# Altium footprint library Capacitors.PcbLib: 39 footprints (part 3 of 3)
Each footprint in its own frame and in the unit in brackets; x right, y up, seen from the top. Pads: shape width x height; smd on the part's side, far side on the other; paste and mask are expansions set on the pad; w line width, h text height; cw(c..) or ccw(c..) is an arc to the next point about the centre after c.
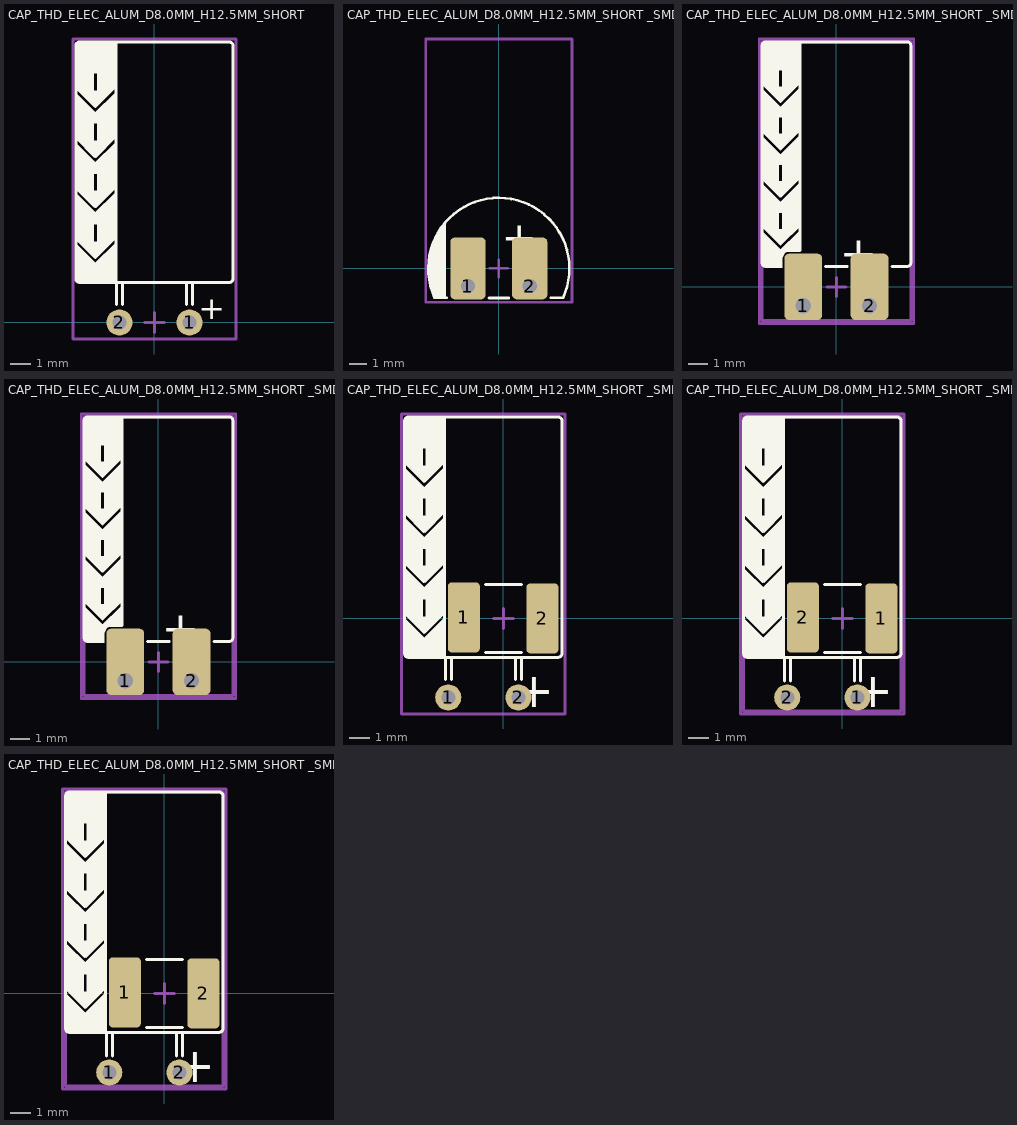
[diagram p2: the footprints below, top view; thin cyan lines are the x and y axes]

## CAP_THD_ELEC_ALUM_D8.0MM_H12.5MM_SHORT [mm] "8MM Diameter, 3.5MM Lead Spacing Aluminium Capacitor"
height 8
pads (2):
  round 1.3 hole 0.7: 1(1.75,0) 2(-1.75,0)
Top Overlay:
  region: -1.925,3.9 -1.925,2 -3.913,2.021 -3.927,3.852 -2.95,2.875
  region: -1.925,6.425 -1.925,4.278 -2.95,3.253 -3.927,4.23 -3.927,6.377 -3.15,5.6 -3.15,3.925 -2.75,3.925 -2.75,5.6
  region: -2.45,5.025 -3.439,5.025 -3.439,5.889 -2.95,5.4 -2.438,5.912
  region: -1.925,8.95 -1.925,6.803 -2.95,5.778 -3.927,6.755 -3.927,8.902 -3.15,8.125 -3.15,6.45 -2.75,6.45 -2.75,8.125
  region: -2.45,7.55 -3.439,7.55 -3.439,8.414 -2.95,7.925 -2.438,8.437
  region: -1.925,11.45 -1.925,9.303 -2.95,8.278 -3.927,9.255 -3.927,11.402 -3.15,10.625 -3.15,8.95 -2.75,8.95 -2.75,10.625
  region: -2.45,10.05 -3.439,10.05 -3.439,10.914 -2.95,10.425 -2.438,10.937
  region: -1.925,13.95 -1.925,11.803 -2.95,10.778 -3.927,11.755 -3.927,13.902 -3.15,13.125 -3.15,11.45 -2.75,11.45 -2.75,13.125
  region: -2.45,12.55 -3.439,12.55 -3.439,13.414 -2.95,12.925 -2.438,13.437
  region: -1.925,14 -3.909,13.983 -3.927,12.829 -1.973,12.829 -1.925,12.877
  lines w0.15: -3.927,3.852 -2.95,2.875 -1.925,3.9 ; -3.927,4.23 -2.95,3.253 -1.925,4.278 ; -3.927,6.377 -2.95,5.4 -1.925,6.425 ; -3.927,6.755 -2.95,5.778 -1.925,6.803 ; -3.927,8.877 -2.95,7.9 -1.925,8.925 ; -3.927,9.255 -2.95,8.278 -1.925,9.303 ; -3.927,11.377 -2.95,10.4 -1.925,11.425 ; -3.927,11.755 -2.95,10.778 -1.925,11.803 ; -1.95,14 -3.731,14 ; -1.925,2 -1.925,14 ; -1.9,0.9 -1.9,1.961 ; -1.6,0.9 -1.6,1.961 ; 1.6,0.9 1.6,1.961 ; 1.9,0.9 1.9,1.961 ; -3.927,2.196 ccw(c-3.731,2.196) -3.731,2 ; -3.927,2.196 -3.927,13.804 cw(c-3.731,13.804) -3.731,14 ; -3.927,2.196 -3.731,2 ; -3.731,2 2.7,2 3.73,2 ccw(c3.73,2.196) 3.926,2.196 3.926,13.804 ccw(c3.73,13.804) 3.73,14 -3.731,14
  lines w0.254: -3.15,3.925 -2.75,3.925 -2.75,5.025 -3.15,5.025 -3.15,3.925 ; -3.15,6.45 -2.75,6.45 -2.75,7.55 -3.15,7.55 -3.15,6.45 ; -3.15,8.95 -2.75,8.95 -2.75,10.05 -3.15,10.05 -3.15,8.95 ; -3.15,11.45 -2.75,11.45 -2.75,12.55 -3.15,12.55 -3.15,11.45
  text "+" at 3.525,1.525 h2
Top Designator:
  text ".Designator" at -2.462,6.372 h1.3
Mechanical 15:
  lines w0.15: -0.5,0 0.5,0 ; 0,-0.5 0,0.5 ; -4.075,-0.825 4.075,-0.825 4.075,14.15 -4.075,14.15 -4.075,-0.825
3D body "ElCapRA-3.5-8x12-black.step": height 9.1, standoff -2, extent -4,-0.174 4.001,14.075

## CAP_THD_ELEC_ALUM_D8.0MM_H12.5MM_SHORT _SMD_C1828_#1 [mm] "8MM Diameter, 3.5MM Lead Spacing Aluminium Capacitor"
height 8
pads (2):
  rrect25% 2x3.5 / inner rrect25% 1.5x3.5 / far side oval 1.5x3.5 hole 0.8 copper offset 0,1: 1(-1.75,-1) 2(1.75,-1)
Top Overlay:
  region: -3,-1.7 -3.65,-1.7 -4,-0.5 -4,0.75 -3.75,1.5 -3.25,2.25 -3,2.725
  lines w0.15: -3.65,-1.636 cw(c0,0) 3.638,-1.663 2.947,-1.663 ; -3.643,-1.663 -2.947,-1.663
  lines w0.152: -0.557,-1.675 0.557,-1.675
  text "+" at 2.189,3.025 h3
Top Designator:
  text ".Designator" at -2.462,5.247 h1.3
Mechanical 15:
  lines w0.15: -0.5,0 0,0 ; 0,-0.5 0,0 ; 0,0.5 0,0 ; 0.5,0 0,0 ; -4.15,-1.925 4.15,-1.925 4.15,4.15 4.15,13 -4.15,13 -4.15,4.15 -4.15,-1.925
3D body "CAP 1812-2.8mm.STEP": height 2.8, standoff 0, extent -2.25,-1.6 2.25,1.6
3D body "ElCapRA-3.5-8x12-black.step": height 8.1, standoff -3, extent -4,-1.324 4.001,12.925

## CAP_THD_ELEC_ALUM_D8.0MM_H12.5MM_SHORT _SMD_C1828_#2_SMD [mm] "8MM Diameter, 3.5MM Lead Spacing Aluminium Capacitor"
height 8
pads (2):
  rrect25% 2x3.5 / inner rrect25% 1.5x3.5 / far side oval 1.5x3.5 hole 0.8 copper offset 0,1: 1(-1.75,-1) 2(1.75,-1)
Top Overlay:
  region: -1.925,2.9 -1.925,1.852 -2.498,1.852 -2.567,1.845 -2.695,1.792 -2.792,1.695 -2.845,1.567 -2.852,1.498 -2.852,1 -3.649,1 -3.915,1.264 -3.927,2.852 -2.95,1.875
  region: -1.925,5.425 -1.925,3.278 -2.95,2.253 -3.927,3.23 -3.927,5.377 -3.15,4.6 -3.15,2.925 -2.75,2.925 -2.75,4.6
  region: -2.45,4.025 -3.439,4.025 -3.439,4.889 -2.95,4.4 -2.438,4.913
  region: -1.925,7.95 -1.925,5.803 -2.95,4.778 -3.927,5.755 -3.927,7.902 -3.15,7.125 -3.15,5.45 -2.75,5.45 -2.75,7.125
  region: -2.45,6.55 -3.439,6.55 -3.439,7.414 -2.95,6.925 -2.438,7.438
  region: -1.925,10.45 -1.925,8.303 -2.95,7.278 -3.927,8.255 -3.927,10.402 -3.15,9.625 -3.15,7.95 -2.75,7.95 -2.75,9.625
  region: -2.45,9.05 -3.439,9.05 -3.439,9.914 -2.95,9.425 -2.438,9.938
  region: -1.925,12.95 -1.925,10.803 -2.95,9.778 -3.927,10.755 -3.927,12.902 -3.15,12.125 -3.15,10.45 -2.75,10.45 -2.75,12.125
  region: -2.45,11.475 -3.439,11.475 -3.439,12.339 -2.95,11.85 -2.438,12.363
  region: -1.925,12.925 -3.909,12.908 -3.927,11.754 -1.973,11.754 -1.925,11.802
  lines w0.15: -3.927,2.852 -2.95,1.875 -1.925,2.9 ; -3.927,3.23 -2.95,2.253 -1.925,3.278 ; -3.927,5.377 -2.95,4.4 -1.925,5.425 ; -3.927,5.755 -2.95,4.778 -1.925,5.803 ; -3.927,7.877 -2.95,6.9 -1.925,7.925 ; -3.927,8.255 -2.95,7.278 -1.925,8.303 ; -3.927,10.377 -2.95,9.4 -1.925,10.425 ; -3.927,10.755 -2.95,9.778 -1.925,10.803 ; -3.731,1.075 -2.927,1.075 ; -3.729,1.075 cw(c-3.729,1.271) -3.925,1.271 -3.925,12.729 cw(c-3.729,12.729) -3.729,12.925 ; -1.95,12.925 -3.731,12.925 3.73,12.925 ; -1.925,1.927 -1.925,12.925 ; -0.573,1.075 0.573,1.075 ; 2.927,1.075 3.73,1.075 ; 3.729,1.075 ccw(c3.729,1.271) 3.925,1.271 3.925,12.729 ccw(c3.729,12.729) 3.729,12.925
  lines w0.254: -3.15,2.925 -2.75,2.925 -2.75,4.025 -3.15,4.025 -3.15,2.925 ; -3.15,5.45 -2.75,5.45 -2.75,6.55 -3.15,6.55 -3.15,5.45 ; -3.15,7.95 -2.75,7.95 -2.75,9.05 -3.15,9.05 -3.15,7.95 ; -3.15,10.45 -2.75,10.45 -2.75,11.55 -3.15,11.55 -3.15,10.45
  text "+" at 2.189,3.025 h3
Top Designator:
  text ".Designator" at -2.503,5.271 h1.3
Mechanical 13:
  lines w0.15: -3.925,-1.775 -3.925,12.925 3.925,12.925 3.925,-1.775 -3.925,-1.775
Mechanical 15:
  lines w0.15: -0.5,0 0.5,0 ; 0,-0.5 0,0.5 ; -4.075,-1.925 4.075,-1.925 4.075,13.075 -4.075,13.075 -4.075,-1.925
3D body "Ceramic_Capacitor_1812_h99mil.step": height 2.51, standoff 0.01, extent -2.25,-1.6 2.25,1.6

## CAP_THD_ELEC_ALUM_D8.0MM_H12.5MM_SHORT _SMD_C1828_#2_THD [mm] "8MM Diameter, 3.5MM Lead Spacing Aluminium Capacitor"
height 8
pads (2):
  rrect25% 2x3.5 / inner rrect25% 1.5x3.5 / far side oval 1.5x3.5 hole 0.8 copper offset 0,1: 1(-1.75,-1) 2(1.75,-1)
Top Overlay:
  region: -1.925,2.9 -1.925,1.852 -2.498,1.852 -2.567,1.845 -2.695,1.792 -2.792,1.695 -2.845,1.567 -2.852,1.498 -2.852,1 -3.649,1 -3.915,1.264 -3.927,2.852 -2.95,1.875
  region: -1.925,5.425 -1.925,3.278 -2.95,2.253 -3.927,3.23 -3.927,5.377 -3.15,4.6 -3.15,2.925 -2.75,2.925 -2.75,4.6
  region: -2.45,4.025 -3.439,4.025 -3.439,4.889 -2.95,4.4 -2.438,4.913
  region: -1.925,7.95 -1.925,5.803 -2.95,4.778 -3.927,5.755 -3.927,7.902 -3.15,7.125 -3.15,5.45 -2.75,5.45 -2.75,7.125
  region: -2.45,6.55 -3.439,6.55 -3.439,7.414 -2.95,6.925 -2.438,7.438
  region: -1.925,10.45 -1.925,8.303 -2.95,7.278 -3.927,8.255 -3.927,10.402 -3.15,9.625 -3.15,7.95 -2.75,7.95 -2.75,9.625
  region: -2.45,9.05 -3.439,9.05 -3.439,9.914 -2.95,9.425 -2.438,9.938
  region: -1.925,12.95 -1.925,10.803 -2.95,9.778 -3.927,10.755 -3.927,12.902 -3.15,12.125 -3.15,10.45 -2.75,10.45 -2.75,12.125
  region: -2.45,11.475 -3.439,11.475 -3.439,12.339 -2.95,11.85 -2.438,12.363
  region: -1.925,12.925 -3.909,12.908 -3.927,11.754 -1.973,11.754 -1.925,11.802
  lines w0.15: -3.927,2.852 -2.95,1.875 -1.925,2.9 ; -3.927,3.23 -2.95,2.253 -1.925,3.278 ; -3.927,5.377 -2.95,4.4 -1.925,5.425 ; -3.927,5.755 -2.95,4.778 -1.925,5.803 ; -3.927,7.877 -2.95,6.9 -1.925,7.925 ; -3.927,8.255 -2.95,7.278 -1.925,8.303 ; -3.927,10.377 -2.95,9.4 -1.925,10.425 ; -3.927,10.755 -2.95,9.778 -1.925,10.803 ; -3.731,1.075 -2.927,1.075 ; -3.729,1.075 cw(c-3.729,1.271) -3.925,1.271 -3.925,12.729 cw(c-3.729,12.729) -3.729,12.925 ; -1.95,12.925 -3.731,12.925 3.73,12.925 ; -1.925,1.927 -1.925,12.925 ; -0.573,1.075 0.573,1.075 ; 2.927,1.075 3.73,1.075 ; 3.729,1.075 ccw(c3.729,1.271) 3.925,1.271 3.925,12.729 ccw(c3.729,12.729) 3.729,12.925
  lines w0.254: -3.15,2.925 -2.75,2.925 -2.75,4.025 -3.15,4.025 -3.15,2.925 ; -3.15,5.45 -2.75,5.45 -2.75,6.55 -3.15,6.55 -3.15,5.45 ; -3.15,7.95 -2.75,7.95 -2.75,9.05 -3.15,9.05 -3.15,7.95 ; -3.15,10.45 -2.75,10.45 -2.75,11.55 -3.15,11.55 -3.15,10.45
  text "+" at 2.189,3.025 h3
Top Designator:
  text ".Designator" at -2.503,5.271 h1.3
Mechanical 13:
  lines w0.15: -3.925,-1.775 -3.925,12.925 3.925,12.925 3.925,-1.775 -3.925,-1.775
Mechanical 15:
  lines w0.15: -0.5,0 0.5,0 ; 0,-0.5 0,0.5 ; -4.075,-1.925 4.075,-1.925 4.075,13.075 -4.075,13.075 -4.075,-1.925
3D body "ElCapRA-3.5-8x12-black_New.stp": height 8.02, standoff -1.98, extent -4,-1.249 4,13

## CAP_THD_ELEC_ALUM_D8.0MM_H12.5MM_SHORT _SMD_C1828_#3 [mm] "8MM Diameter, 3.5MM Lead Spacing Aluminium Capacitor"
height 8
pads (4):
  round 1.3 hole 0.7: 1(-2.75,-3.95) 2(0.75,-3.95)
  rrect25% 1.6x3.5 smd: 1(-1.975,0.05) 2(1.95,0)
Top Overlay:
  region: -2.925,0.059 -2.925,-1.95 -4.913,-1.929 -4.927,-0.098 -4.004,-1.021
  region: -2.925,2.475 -2.925,0.225 -3.898,-0.748 -4.927,0.28 -4.927,2.427 -4.15,1.65 -4.15,-0.025 -3.75,-0.025 -3.75,1.65
  region: -3.45,1.075 -4.439,1.075 -4.439,1.939 -3.95,1.45 -3.438,1.962
  region: -2.925,5 -2.925,2.853 -3.95,1.828 -4.927,2.805 -4.927,4.952 -4.15,4.175 -4.15,2.5 -3.75,2.5 -3.75,4.175
  region: -3.45,3.6 -4.439,3.6 -4.439,4.464 -3.95,3.975 -3.438,4.487
  region: -2.925,7.5 -2.925,5.353 -3.95,4.328 -4.927,5.305 -4.927,7.452 -4.15,6.675 -4.15,5 -3.75,5 -3.75,6.675
  region: -3.45,6.1 -4.439,6.1 -4.439,6.964 -3.95,6.475 -3.438,6.987
  region: -3.45,8.6 -4.439,8.6 -4.439,9.464 -3.95,8.975 -3.438,9.487
  region: -2.925,10.05 -4.909,10.033 -4.927,8.879 -2.973,8.879 -2.925,8.927
  region: -2.925,10 -2.925,7.853 -3.95,6.828 -4.927,7.805 -4.927,9.952 -4.15,9.175 -4.15,7.5 -3.75,7.5 -3.75,9.175
  lines w0.15: -4.927,-0.098 -3.95,-1.075 -3,-0.125 ; -4.927,0.28 -3.95,-0.697 -3.002,0.252 ; -4.927,2.427 -3.95,1.45 ; -4.927,2.805 -3.95,1.828 -2.95,2.828 ; -4.927,4.927 -3.95,3.95 ; -4.927,5.305 -3.95,4.328 -2.95,5.328 ; -4.927,7.427 -3.95,6.45 ; -4.927,7.805 -3.95,6.828 -2.95,7.828 ; -3.975,1.425 -2.95,2.45 ; -3.975,3.925 -2.95,4.95 ; -3.975,6.425 -2.95,7.45 ; -2.95,-1.89 -2.95,10.05 -4.731,10.05 ; -2.9,-3.05 -2.9,-1.989 ; -2.6,-3.05 -2.6,-1.989 ; -0.9,-1.7 0.9,-1.7 ; -0.9,1.7 0.9,1.7 ; 0.6,-3.05 0.6,-1.989 ; 0.9,-3.05 0.9,-1.989 ; -4.927,-1.754 ccw(c-4.731,-1.754) -4.731,-1.95 ; -4.927,-1.754 -4.731,-1.95 ; -4.927,-1.754 -4.927,9.854 cw(c-4.731,9.854) -4.731,10.05 ; -4.731,-1.95 1.7,-1.95 2.73,-1.95 ccw(c2.73,-1.754) 2.926,-1.754 2.926,9.854 ccw(c2.73,9.854) 2.73,10.05 -4.731,10.05
  lines w0.254: -4.15,-0.025 -3.75,-0.025 -3.75,1.075 -4.15,1.075 -4.15,-0.025 ; -4.15,2.5 -4.15,3.6 -3.75,3.6 -3.75,2.5 -4.15,2.5 ; -4.15,5 -3.75,5 -3.75,6.1 -4.15,6.1 -4.15,5 ; -4.15,7.5 -3.75,7.5 -3.75,8.6 -4.15,8.6 -4.15,7.5
  text "+" at 2.539,-2.375 h3
Top Designator:
  text ".Designator" at -3.462,2.297 h1.3
Mechanical 15:
  lines w0.15: -0.5,0 0.5,0 ; 0,-0.5 0,0.5 ; -5.075,-4.775 3.075,-4.775 3.075,10.2 -5.075,10.2 -5.075,-4.775
3D body "ElCapRA-3.5-8x12-black.step": height 8.1, standoff -3, extent -5,-4.124 3.001,10.125
3D body "Ceramic_Capacitor_1812_h99mil.step": height 2.51, standoff 0.01, extent -2.25,-1.6 2.25,1.6

## CAP_THD_ELEC_ALUM_D8.0MM_H12.5MM_SHORT _SMD_C1828_#3_SMD [mm] "8MM Diameter, 3.5MM Lead Spacing Aluminium Capacitor"
height 8
pads (4):
  round 1.3 hole 0.7: 1(0.75,-3.95) 2(-2.75,-3.95)
  rrect25% 1.6x3.5 smd: 1(1.95,0) 2(-1.975,0.05)
Top Overlay:
  region: -2.925,0.059 -2.925,-1.95 -4.913,-1.929 -4.927,-0.098 -4.004,-1.021
  region: -2.925,2.475 -2.925,0.225 -3.898,-0.748 -4.927,0.28 -4.927,2.427 -4.15,1.65 -4.15,-0.025 -3.75,-0.025 -3.75,1.65
  region: -3.45,1.075 -4.439,1.075 -4.439,1.939 -3.95,1.45 -3.438,1.962
  region: -2.925,5 -2.925,2.853 -3.95,1.828 -4.927,2.805 -4.927,4.952 -4.15,4.175 -4.15,2.5 -3.75,2.5 -3.75,4.175
  region: -3.45,3.6 -4.439,3.6 -4.439,4.464 -3.95,3.975 -3.438,4.487
  region: -2.925,7.5 -2.925,5.353 -3.95,4.328 -4.927,5.305 -4.927,7.452 -4.15,6.675 -4.15,5 -3.75,5 -3.75,6.675
  region: -3.45,6.1 -4.439,6.1 -4.439,6.964 -3.95,6.475 -3.438,6.987
  region: -3.45,8.6 -4.439,8.6 -4.439,9.464 -3.95,8.975 -3.438,9.487
  region: -2.925,10.05 -4.909,10.033 -4.927,8.879 -2.973,8.879 -2.925,8.927
  region: -2.925,10 -2.925,7.853 -3.95,6.828 -4.927,7.805 -4.927,9.952 -4.15,9.175 -4.15,7.5 -3.75,7.5 -3.75,9.175
  lines w0.15: -4.925,-0.1 -3.95,-1.075 -3,-0.125 ; -4.925,7.425 -3.95,6.45 ; -4.923,0.277 -3.95,-0.697 -3.002,0.252 ; -4.923,2.802 -3.95,1.828 -2.95,2.828 ; -4.923,5.302 -3.95,4.328 -2.95,5.328 ; -4.912,2.412 -3.95,1.45 ; -4.912,4.912 -3.95,3.95 ; -4.898,7.777 -3.95,6.828 -2.95,7.828 ; -4.731,-1.95 1.7,-1.95 2.73,-1.95 ccw(c2.729,-1.754) 2.925,-1.754 2.925,9.854 ccw(c2.729,9.854) 2.729,10.05 -4.731,10.05 -2.95,10.05 -2.95,-1.89 ; -4.729,-1.95 cw(c-4.729,-1.754) -4.925,-1.754 -4.925,9.854 cw(c-4.729,9.854) -4.729,10.05 ; -3.975,1.425 -2.95,2.45 ; -3.975,3.925 -2.95,4.95 ; -3.975,6.425 -2.95,7.45 ; -2.9,-3.125 -2.9,-1.975 ; -2.6,-3.125 -2.6,-1.95 ; -0.9,-1.7 0.9,-1.7 ; -0.9,1.7 0.9,1.7 ; 0.6,-3.125 0.6,-1.989 ; 0.9,-3.125 0.9,-1.989
  lines w0.254: -4.15,-0.025 -3.75,-0.025 -3.75,1.075 -4.15,1.075 -4.15,-0.025 ; -4.15,2.5 -4.15,3.6 -3.75,3.6 -3.75,2.5 -4.15,2.5 ; -4.15,5 -3.75,5 -3.75,6.1 -4.15,6.1 -4.15,5 ; -4.15,7.5 -3.75,7.5 -3.75,8.6 -4.15,8.6 -4.15,7.5
  text "+" at 2.539,-2.375 h3
Top Designator:
  text ".Designator" at -3.503,2.321 h1.3
Mechanical 13:
  lines w0.15: -4.925,-4.625 -4.925,10.05 2.925,10.05 2.925,-4.625 -4.925,-4.625
Mechanical 15:
  lines w0.15: -0.5,0 0.5,0 ; 0,-0.5 0,0.5 ; -5.075,-4.775 -5.075,10.2 3.075,10.2 3.075,-4.775 -5.075,-4.775
3D body "Ceramic_Capacitor_1812_h99mil.step": height 2.51, standoff 0.01, extent -2.25,-1.6 2.25,1.6

## CAP_THD_ELEC_ALUM_D8.0MM_H12.5MM_SHORT _SMD_C1828_#3_THD [mm] "8MM Diameter, 3.5MM Lead Spacing Aluminium Capacitor"
height 8
pads (4):
  round 1.3 hole 0.7: 1(-2.75,-3.95) 2(0.75,-3.95)
  rrect25% 1.6x3.5 smd: 1(-1.975,0.05) 2(1.95,0)
Top Overlay:
  region: -2.925,0.059 -2.925,-1.95 -4.913,-1.929 -4.927,-0.098 -4.004,-1.021
  region: -2.925,2.475 -2.925,0.225 -3.898,-0.748 -4.927,0.28 -4.927,2.427 -4.15,1.65 -4.15,-0.025 -3.75,-0.025 -3.75,1.65
  region: -3.45,1.075 -4.439,1.075 -4.439,1.939 -3.95,1.45 -3.438,1.962
  region: -2.925,5 -2.925,2.853 -3.95,1.828 -4.927,2.805 -4.927,4.952 -4.15,4.175 -4.15,2.5 -3.75,2.5 -3.75,4.175
  region: -3.45,3.6 -4.439,3.6 -4.439,4.464 -3.95,3.975 -3.438,4.487
  region: -2.925,7.5 -2.925,5.353 -3.95,4.328 -4.927,5.305 -4.927,7.452 -4.15,6.675 -4.15,5 -3.75,5 -3.75,6.675
  region: -3.45,6.1 -4.439,6.1 -4.439,6.964 -3.95,6.475 -3.438,6.987
  region: -3.45,8.6 -4.439,8.6 -4.439,9.464 -3.95,8.975 -3.438,9.487
  region: -2.925,10.05 -4.909,10.033 -4.927,8.879 -2.973,8.879 -2.925,8.927
  region: -2.925,10 -2.925,7.853 -3.95,6.828 -4.927,7.805 -4.927,9.952 -4.15,9.175 -4.15,7.5 -3.75,7.5 -3.75,9.175
  lines w0.15: -4.925,-0.1 -3.95,-1.075 -3,-0.125 ; -4.925,7.425 -3.95,6.45 ; -4.923,0.277 -3.95,-0.697 -3.002,0.252 ; -4.923,2.802 -3.95,1.828 -2.95,2.828 ; -4.923,5.302 -3.95,4.328 -2.95,5.328 ; -4.912,2.412 -3.95,1.45 ; -4.912,4.912 -3.95,3.95 ; -4.898,7.777 -3.95,6.828 -2.95,7.828 ; -4.731,-1.95 1.7,-1.95 2.73,-1.95 ccw(c2.729,-1.754) 2.925,-1.754 2.925,9.854 ccw(c2.729,9.854) 2.729,10.05 -4.731,10.05 -2.95,10.05 -2.95,-1.89 ; -4.729,-1.95 cw(c-4.729,-1.754) -4.925,-1.754 -4.925,9.854 cw(c-4.729,9.854) -4.729,10.05 ; -3.975,1.425 -2.95,2.45 ; -3.975,3.925 -2.95,4.95 ; -3.975,6.425 -2.95,7.45 ; -2.9,-3.125 -2.9,-1.989 ; -2.6,-3.125 -2.6,-1.989 ; -0.9,-1.7 0.9,-1.7 ; -0.9,1.7 0.9,1.7 ; 0.6,-3.125 0.6,-1.989 ; 0.9,-3.125 0.9,-1.989
  lines w0.254: -4.15,-0.025 -3.75,-0.025 -3.75,1.075 -4.15,1.075 -4.15,-0.025 ; -4.15,2.5 -4.15,3.6 -3.75,3.6 -3.75,2.5 -4.15,2.5 ; -4.15,5 -3.75,5 -3.75,6.1 -4.15,6.1 -4.15,5 ; -4.15,7.5 -3.75,7.5 -3.75,8.6 -4.15,8.6 -4.15,7.5
  text "+" at 2.539,-2.375 h3
Top Designator:
  text ".Designator" at -3.503,2.321 h1.3
Mechanical 13:
  lines w0.15: -4.925,-4.625 -4.925,10.05 2.925,10.05 2.925,-4.625 -4.925,-4.625
Mechanical 15:
  lines w0.15: -0.5,0 0.5,0 ; 0,-0.5 0,0.5 ; -5.075,-4.775 3.075,-4.775 3.075,10.2 -5.075,10.2 -5.075,-4.775
3D body "Ceramic_Capacitor_1812_h99mil.step": height 2.51, standoff 0.01, extent -2.25,-1.6 2.25,1.6
3D body "ElCapRA-3.5-8x12-black_New.stp": height 8.02, standoff -1.98, extent -5,-4.199 3.001,10.05